# Altium footprint library PassiveSMT.PcbLib: 41 footprints (part 3 of 3)
Each footprint in its own frame and in the unit in brackets; x right, y up, seen from the top. Pads: shape width x height; smd on the part's side, far side on the other; paste and mask are expansions set on the pad; w line width, h text height; cw(c..) or ccw(c..) is an arc to the next point about the centre after c.
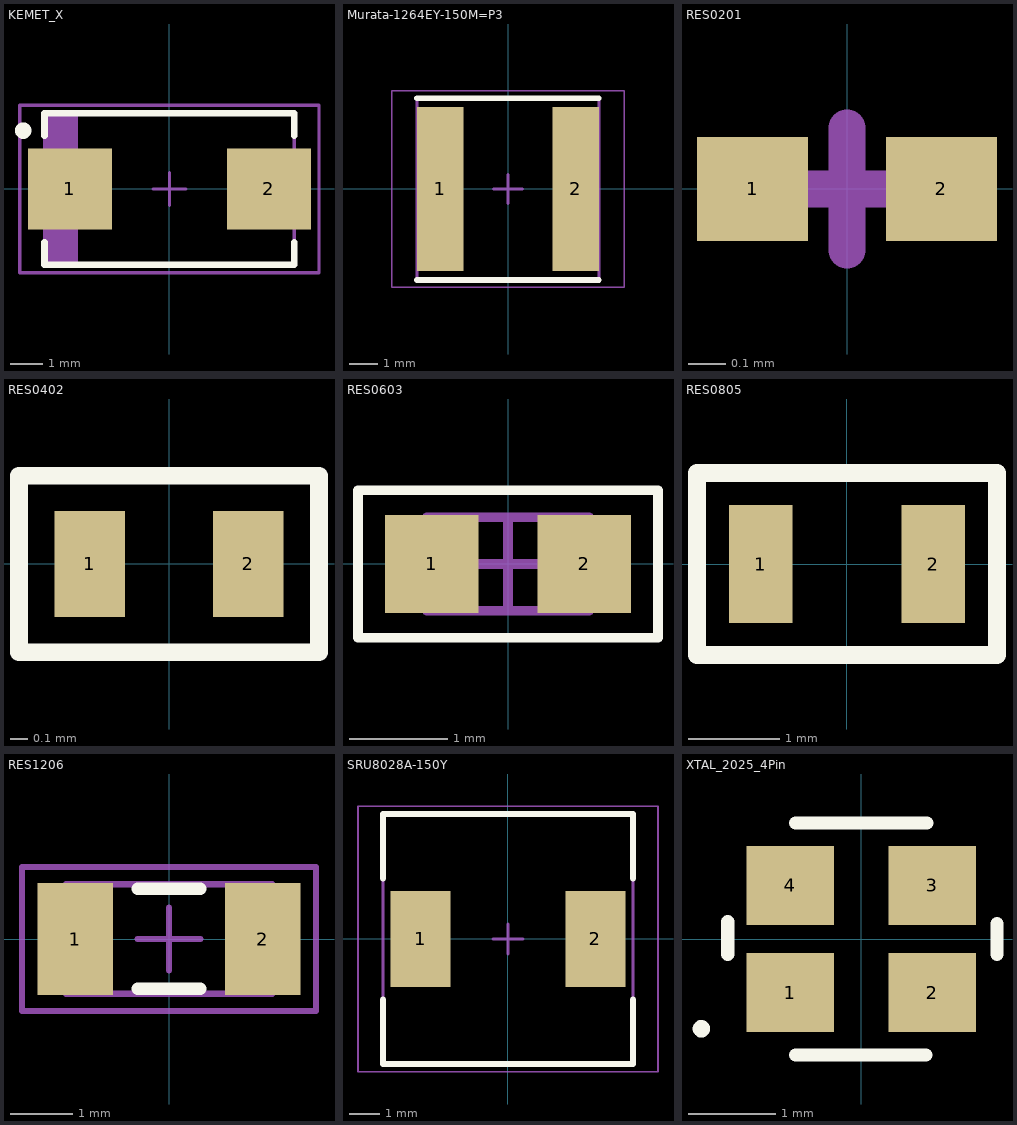
[diagram p2: the footprints below, top view; thin cyan lines are the x and y axes]

## KEMET_X [mm] "Molded Capacitor, 2-Leads, Body 7.3x4.3mm, IPC Medium Density"
height 4.3
pads (2):
  rect 2.55x2.45 smd: 1(-3.025,0) 2(3.025,0)
Top Overlay:
  circle w0.25: c-4.45,1.775 r0.125
  lines w0.2: -3.8,-1.625 -3.8,-2.3 3.8,-2.3 3.8,-1.625 ; -3.8,1.625 -3.8,2.3 3.8,2.3 3.8,1.625
Mechanical 13:
  rectangle: -3.8,-2.3 -2.778,2.3
  lines w0.1: -3.8,-2.3 -3.8,2.3 3.8,2.3 3.8,-2.3 -3.8,-2.3
Mechanical 15:
  lines w0.1: -0.5,0 0.5,0 ; 0,-0.5 0,0.5 ; -4.55,-2.55 -4.55,2.55 4.55,2.55 4.55,-2.55 -4.55,-2.55
3D body: height 3.1, standoff 0, extent -3.8,-2.3 3.8,2.3

## Murata-1264EY-150M=P3 [mm] "Precision Wire Wound Inductor, 2-Leads, Body 6,30x6,30mm, IPC Medium Density"
height 5
pads (2):
  rect 1.6x5.7 smd: 1(-2.35,0) 2(2.35,0)
Top Overlay:
  lines w0.2: -3.15,-3.15 3.15,-3.15 ; -3.15,3.15 3.15,3.15
Mechanical 13:
  lines w0.1: -3.15,-3.15 -3.15,3.15 3.15,3.15 3.15,-3.15 -3.15,-3.15
Mechanical 15:
  lines w0.05: -4.025,-3.4 -4.025,3.4 4.025,3.4 4.025,-3.4 -4.025,-3.4
  lines w0.1: -0.5,0 0.5,0 ; 0,-0.5 0,0.5
3D body: height 5, standoff 0, extent -3.15,-3.15 3.15,3.15

## RES0201 [mm] "Chip Resistor, 2-Leads, Body 0.6x0.3mm, IPC Medium Density"
height 0.28
pads (2):
  rect 0.3x0.28 smd: 1(-0.255,0) 2(0.255,0)
Mechanical 15:
  lines w0.1: -0.165,0 0.165,0 ; 0,-0.165 0,0.165
3D body: height 0.3, standoff 0, extent -0.315,-0.165 0.315,0.165
3D body "RES0201.stp": height 0.3, standoff 0, extent -0.3,-0.15 0.3,0.15

## RES0402 [mm]
pads (2):
  rect 0.4x0.6 smd: 1(-0.45,0) 2(0.45,0)
Top Overlay:
  lines w0.1: -0.85,-0.5 0.85,-0.5 0.85,0.5 -0.85,0.5 -0.85,-0.5
3D body "RES0402.stp": height 0.3, standoff 0, extent -0.5,-0.25 0.5,0.25

## RES0603 [mm] "Chip Resistor, 2-Leads, Body 1.6x0.8mm, IPC Medium Density"
height 0.5
pads (2):
  rect 0.95x1 smd: 1(-0.775,0) 2(0.775,0)
Top Overlay:
  lines w0.1: -1.525,-0.75 1.525,-0.75 1.525,0.75 -1.525,0.75 -1.525,-0.75
Mechanical 13:
  lines w0.1: -0.825,-0.475 0.825,-0.475 0.825,0.475 -0.825,0.475 -0.825,-0.475
Mechanical 15:
  lines w0.1: -0.475,0 0.475,0 ; 0,-0.475 0,0.475
3D body "RES0603.stp": height 0.45, standoff 0, extent -0.8,-0.4 0.8,0.4

## RES0805 [mm]
pads (2):
  rect 0.7x1.3 smd: 1(-0.95,0) 2(0.95,0)
Top Overlay:
  lines w0.2: -1.65,-1 1.65,-1 1.65,1 -1.65,1 -1.65,0 -1.65,-1
3D body "RES0805.stp": height 0.5, standoff 0, extent -1,-0.63 1,0.62

## RES1206 [mm] "Chip Resistor, 2-Leads, Body 3.1x1.6mm, IPC Medium Density"
height 0.6
pads (2):
  rect 1.2x1.8 smd: 1(-1.5,0) 2(1.5,0)
Top Overlay:
  lines w0.2: -0.5,-0.8 0.5,-0.8 ; -0.5,0.8 0.5,0.8
Mechanical 13:
  lines w0.1: -1.65,-0.875 1.65,-0.875 1.65,0.875 -1.65,0.875 -1.65,-0.875
Mechanical 15:
  lines w0.1: -0.5,0 0.5,0 ; 0,-0.5 0,0.5 ; -2.35,-1.15 2.35,-1.15 2.35,1.15 -2.35,1.15 -2.35,-1.15
3D body "RES1206.stp": height 0.55, standoff 0, extent -1.55,-0.772 1.55,0.78

## SRU8028A-150Y [mm] "Precision Wire Wound Inductor, 2-Leads, Body 8,00x8,00mm, IPC Medium Density"
height 2.8
pads (2):
  rect 2x3.2 smd: 1(-2.9,0) 2(2.9,0)
Top Overlay:
  lines w0.2: -4.15,-2 -4.15,-4.15 4.15,-4.15 4.15,-2 ; -4.15,2 -4.15,4.15 4.15,4.15 4.15,2
Mechanical 13:
  lines w0.1: -4.15,-4.15 -4.15,4.15 4.15,4.15 4.15,-4.15 -4.15,-4.15
Mechanical 15:
  lines w0.05: -4.975,-4.4 -4.975,4.4 4.975,4.4 4.975,-4.4 -4.975,-4.4
  lines w0.1: -0.5,0 0.5,0 ; 0,-0.5 0,0.5
3D body: height 2.8, standoff 0, extent -4.15,-4.15 4.15,4.15

## XTAL_2025_4Pin [mm]
pads (4):
  rect 1x0.9 smd: 1(-0.813,-0.613) 2(0.813,-0.613) 3(0.813,0.613) 4(-0.813,0.613)
Top Overlay:
  circle w0.1: c-1.825,-1.025 r0.05
  lines w0.152: -1.525,-0.175 -1.525,0.195 ; -0.75,-1.325 0.74,-1.325 ; -0.75,1.325 0.75,1.325 ; 1.55,-0.175 1.55,0.175
3D body "User Library-GeyerElectronics_KX6.step": height 0.56, standoff 0, extent -1.27,-1 1.25,1
3D body: height 0.56, standoff 0.15, extent -1.05,-0.8 1.05,0.8